# Altium footprint library 662104231722.PcbLib: 1 footprints
Each footprint in its own frame and in the unit in brackets; x right, y up, seen from the top. Pads: shape width x height; smd on the part's side, far side on the other; paste and mask are expansions set on the pad; w line width, h text height; cw(c..) or ccw(c..) is an arc to the next point about the centre after c.
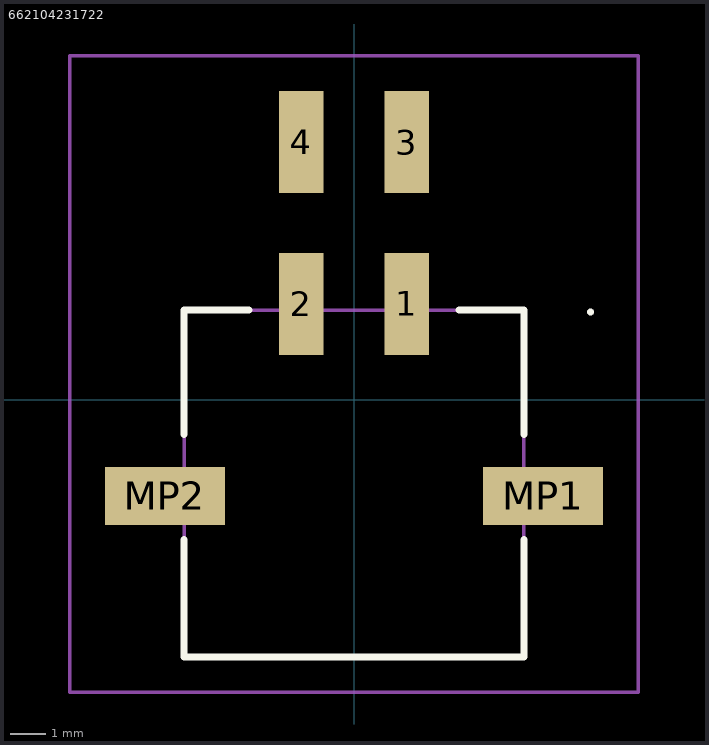
[diagram p0: the footprint, top view; thin cyan lines are the x and y axes]

## 662104231722 [mm]
pads (6):
  rect 1.27x2.92 smd: 1(1.5,2.73) 2(-1.5,2.73) 3(1.5,7.35) 4(-1.5,7.35)
  rect 3.43x1.65 smd: MP1(5.395,-2.75) MP2(-5.395,-2.75)
Top Overlay:
  lines w0.1: 6.7,2.5 6.7,2.5 ; 6.7,2.5 ccw(c6.75,2.5) 6.8,2.5 ; 6.7,2.5 cw(c6.75,2.5) 6.8,2.5 ; 6.8,2.5 6.8,2.5
  lines w0.2: -4.85,-4 -4.85,-7.35 4.85,-7.35 4.85,-4 ; -4.85,-1 -4.85,2.55 -3,2.55 ; 3,2.55 4.85,2.55 4.85,-1
Mechanical 15:
  lines w0.1: -4.85,-7.35 4.85,-7.35 4.85,2.55 -4.85,2.55 -4.85,-7.35
Mechanical 20:
  lines w0.1: -8.11,-8.35 8.11,-8.35 8.11,9.81 -8.11,9.81 -8.11,-8.35